# Altium footprint library Discrete_Capacitors_Electrolytic_SMD.PcbLib: 4 footprints
Each footprint in its own frame and in the unit in brackets; x right, y up, seen from the top. Pads: shape width x height; smd on the part's side, far side on the other; paste and mask are expansions set on the pad; w line width, h text height; cw(c..) or ccw(c..) is an arc to the next point about the centre after c.
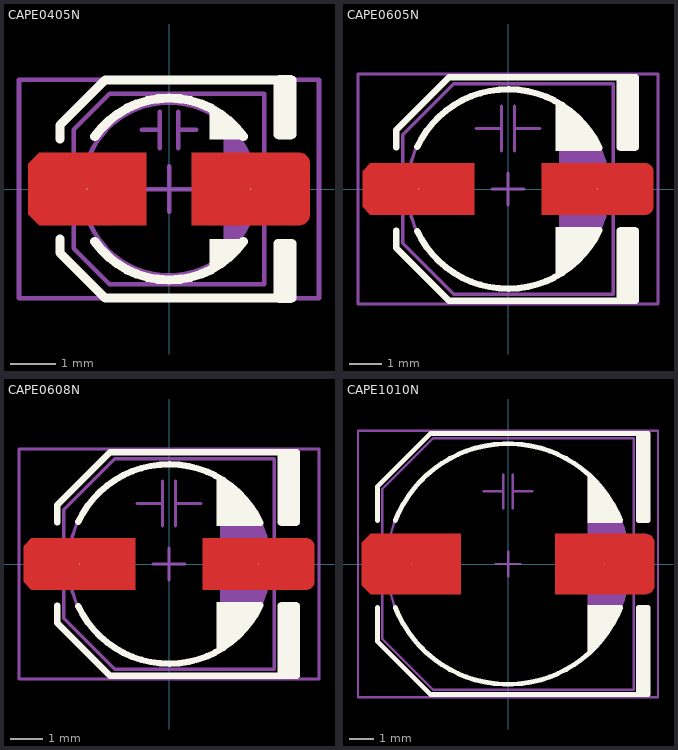
[diagram p0: the footprints below, top view; thin cyan lines are the x and y axes]

## CAPE0405N [mil]
height 216.54
pads (2):
  round 1 smd: 1(-70.87,0) 2(70.87,0)
Top Layer:
  region: 112.6,-31.5 19.68,-31.5 19.68,31.5 112.6,31.5 113.53,31.5 115.35,31.13 117.07,30.42 118.62,29.39 119.94,28.07 120.97,26.52 121.68,24.8 122.05,22.98 122.05,22.05 122.05,-22.05 122.05,-22.98 121.68,-24.8 120.97,-26.52 119.94,-28.07 118.62,-29.39 117.07,-30.42 115.35,-31.13 113.53,-31.5
  region: -112.6,31.5 -19.68,31.5 -19.68,-31.5 -112.6,-31.5 -122.05,-22.05 -122.05,22.05
Top Overlay:
  region: 94.49,98.43 106.3,98.43 106.3,43.31 94.49,43.31
  region: 35.43,70.87 35.43,43.31 66.93,43.31 64.52,48.12 57.93,56.63 49.83,63.71 40.52,69.11
  region: 94.49,-98.43 106.3,-98.43 106.3,-43.31 94.49,-43.31
  region: 35.43,-70.87 35.43,-43.31 66.93,-43.31 64.52,-48.12 57.93,-56.63 49.83,-63.71 40.52,-69.11
  lines w7.87: -94.49,-43.31 -94.49,-55.12 -55.12,-94.49 106.3,-94.49 106.3,-47.24 ; -94.49,43.31 -94.49,55.12 -55.12,94.49 106.3,94.49 106.3,47.24 ; -64.33,-45.41 ccw(c0,0) 64.33,-45.41 ; -64.33,45.41 cw(c0,0) 64.33,45.41 ; 94.49,-94.49 94.49,-47.24 ; 94.49,47.24 94.49,94.49
Top Package:
  circle w3.94: c0,0 r74.8
  region: 47.24,59.05 47.24,-59.06 50.6,-56.46 56.64,-50.52 61.93,-43.91 66.4,-36.71 69.98,-29.03 72.62,-20.98 74.3,-12.68 74.97,-4.23 74.8,0 74.97,4.23 74.3,12.68 72.63,20.98 69.98,29.03 66.4,36.71 61.93,43.91 56.64,50.52 50.6,56.46
  lines w3.94: -82.68,-15.75 -94.49,-15.75 -94.49,15.75 -82.68,15.75 ; -23.62,51.18 -7.87,51.18 ; -7.87,35.43 -7.87,66.93 ; 7.87,35.43 7.87,66.93 ; 7.87,51.18 23.62,51.18 ; 82.68,-15.75 94.49,-15.75 94.49,15.75 82.68,15.75 ; -82.68,-51.18 -82.68,51.18 -51.18,82.68 82.68,82.68 82.68,-82.68 -51.18,-82.68 -82.68,-51.18
Top Comment:
  text ".Comment" at -83.8,-85.59 h59.06
Top Designator:
  text ".Designator" at -101.6,-80.11 h59.06
Top Border:
  lines w3.94: -19.61,-0.03 19.76,-0.03 ; 0.07,-19.72 0.07,19.65 ; -129.92,-94.49 -129.92,94.49 129.92,94.49 129.92,-94.49 -129.92,-94.49
3D body "CAPE0405.step": height 212.64, standoff 0, extent -98.42,-84.64 98.43,84.65

## CAPE0605N [mil]
height 216.54
pads (2):
  round 1 smd: 1(-110.24,0) 2(110.24,0)
Top Layer:
  region: -169.69,31.5 -41.34,31.5 -41.34,-31.5 -169.69,-31.5 -179.13,-22.05 -179.13,22.05
  region: 169.69,-31.5 41.34,-31.5 41.34,31.5 169.69,31.5 170.62,31.5 172.44,31.13 174.16,30.42 175.71,29.39 177.02,28.07 178.06,26.52 178.77,24.8 179.13,22.98 179.13,22.05 179.13,-22.05 179.13,-22.98 178.77,-24.8 178.06,-26.52 177.02,-28.07 175.71,-29.39 174.16,-30.42 172.44,-31.13 170.62,-31.5
Top Overlay:
  region: 137.8,-137.8 157.48,-137.8 157.48,-47.24 137.8,-47.24
  region: 137.8,137.8 157.48,137.8 157.48,47.24 137.8,47.24
  region: 59.06,-47.24 114.17,-47.24 110.04,-56.7 98.71,-73.95 84.63,-89.04 68.2,-101.53 59.05,-106.3 59.06,-106.3
  region: 59.06,47.24 114.17,47.24 110.04,56.7 98.71,73.95 84.63,89.04 68.2,101.53 59.05,106.3 59.06,106.3
  lines w7.87: -137.8,-51.18 -137.8,-72.83 -72.83,-137.8 157.48,-137.8 157.48,-51.18 ; -137.8,51.18 -137.8,72.83 -72.83,137.8 157.48,137.8 157.48,51.18 ; -112.09,-52.06 ccw(c0,1) 112.79,-50.55 ; -112.09,52.06 cw(c0,-1) 112.79,50.55 ; 137.8,-137.8 137.8,-51.18 ; 137.8,51.18 137.8,137.8
Top Package:
  circle w3.94: c0,0 r124.02
  region: 62.99,106.3 62.99,-106.3 69.88,-102.27 82.47,-92.44 93.64,-81.02 103.19,-68.21 110.95,-54.25 116.77,-39.38 120.57,-23.87 122.26,-7.98 122.05,0 122.31,7.99 120.69,23.9 116.94,39.44 111.12,54.34 103.36,68.32 93.78,81.12 82.56,92.52 69.92,102.3
  lines w3.94: -39.37,74.8 -7.87,74.8 ; -7.87,47.24 -7.87,102.36 ; 7.87,47.24 7.87,102.36 ; 7.87,74.8 39.37,74.8 ; -129.92,-66.93 -129.92,66.93 -66.93,129.92 129.92,129.92 129.92,-129.92 -66.93,-129.92 -129.92,-66.93
Top Comment:
  text ".Comment" at -83.8,-93.46 h59.06
Top Designator:
  text ".Designator" at -101.6,-87.99 h59.06
Top Border:
  lines w3.94: -19.61,-0.03 19.76,-0.03 ; 0.07,-19.72 0.07,19.65 ; -185.04,-141.73 -185.04,141.73 185.04,141.73 185.04,-141.73 -185.04,-141.73
3D body "CAPE0605.step": height 212.64, standoff 0, extent -143.7,-129.92 143.71,129.92

## CAPE0608N [mil]
height 314.96
pads (2):
  round 1 smd: 1(-110.24,0) 2(110.24,0)
Top Layer:
  region: -169.69,31.5 -41.34,31.5 -41.34,-31.5 -169.69,-31.5 -179.13,-22.05 -179.13,22.05
  region: 169.69,-31.5 41.34,-31.5 41.34,31.5 169.69,31.5 170.62,31.5 172.44,31.13 174.16,30.42 175.71,29.39 177.02,28.07 178.06,26.52 178.77,24.8 179.13,22.98 179.13,22.05 179.13,-22.05 179.13,-22.98 178.77,-24.8 178.06,-26.52 177.02,-28.07 175.71,-29.39 174.16,-30.42 172.44,-31.13 170.62,-31.5
Top Overlay:
  region: 137.8,-137.8 157.48,-137.8 157.48,-47.24 137.8,-47.24
  region: 137.8,137.8 157.48,137.8 157.48,47.24 137.8,47.24
  region: 59.06,-47.24 114.17,-47.24 110.04,-56.7 98.71,-73.95 84.63,-89.04 68.2,-101.53 59.05,-106.3 59.06,-106.3
  region: 59.06,47.24 114.17,47.24 110.04,56.7 98.71,73.95 84.63,89.04 68.2,101.53 59.05,106.3 59.06,106.3
  lines w7.87: -137.8,-51.18 -137.8,-72.83 -72.83,-137.8 157.48,-137.8 157.48,-51.18 ; -137.8,51.18 -137.8,72.83 -72.83,137.8 157.48,137.8 157.48,51.18 ; -112.09,-52.06 ccw(c0,1) 112.79,-50.55 ; -112.09,52.06 cw(c0,-1) 112.79,50.55 ; 137.8,-137.8 137.8,-51.18 ; 137.8,51.18 137.8,137.8
Top Package:
  circle w3.94: c0,0 r124.02
  region: 62.99,106.3 62.99,-106.3 69.88,-102.27 82.47,-92.44 93.64,-81.02 103.19,-68.21 110.95,-54.25 116.77,-39.38 120.57,-23.87 122.26,-7.98 122.05,0 122.31,7.99 120.69,23.9 116.94,39.44 111.12,54.34 103.36,68.32 93.78,81.12 82.56,92.52 69.92,102.3
  lines w3.94: -39.37,74.8 -7.87,74.8 ; -7.87,47.24 -7.87,102.36 ; 7.87,47.24 7.87,102.36 ; 7.87,74.8 39.37,74.8 ; -129.92,-66.93 -129.92,66.93 -66.93,129.92 129.92,129.92 129.92,-129.92 -66.93,-129.92 -129.92,-66.93
Top Comment:
  text ".Comment" at -83.8,-93.46 h59.06
Top Designator:
  text ".Designator" at -101.6,-87.99 h59.06
Top Border:
  lines w3.94: -19.61,-0.03 19.76,-0.03 ; 0.07,-19.72 0.07,19.65 ; -185.04,-141.73 -185.04,141.73 185.04,141.73 185.04,-141.73 -185.04,-141.73
3D body "CAPE0608.step": height 319.29, standoff 0, extent -137.79,-129.92 137.8,129.92

## CAPE1010N [mil]
height 401.57
pads (2):
  round 1 smd: 1(-157.48,0) 2(157.48,0)
Top Layer:
  region: 223.43,49.21 224.88,49.21 227.73,48.65 230.42,47.53 232.84,45.92 234.89,43.86 236.51,41.44 237.62,38.76 238.19,35.9 238.19,34.45 238.19,-34.45 238.19,-35.9 237.62,-38.76 236.51,-41.44 234.89,-43.86 232.84,-45.92 230.42,-47.53 227.73,-48.65 224.88,-49.21 223.43,-49.21 76.77,-49.21 76.77,49.21
  region: -223.43,49.21 -76.77,49.21 -76.77,-49.21 -223.43,-49.21 -238.19,-34.45 -238.19,34.45
Top Overlay:
  region: 129.92,-66.93 185.04,-66.93 181.15,-78.49 170.15,-100.27 156.15,-120.26 139.45,-138.05 129.92,-145.67
  region: 129.92,66.93 185.04,66.93 181.15,78.49 170.15,100.27 156.15,120.26 139.45,138.05 129.92,145.67
  region: 212.6,-212.6 228.35,-212.6 228.35,-66.93 212.6,-66.93
  region: 212.6,212.6 228.35,212.6 228.35,66.93 212.6,66.93
  lines w7.87: -212.6,-70.87 -212.6,-125.98 -125.98,-212.6 228.35,-212.6 228.35,-70.87 ; -212.6,70.87 -212.6,125.98 -125.98,212.6 228.35,212.6 228.35,70.87 ; -183.5,-70.27 ccw(c0,1) 183.5,-70.27 ; -183.5,70.27 cw(c0,-1) 183.5,70.27 ; 212.6,-212.6 212.6,-70.87 ; 212.6,70.87 212.6,212.6
Top Package:
  circle w3.94: c0,0 r196.85
  region: 129.92,145.67 129.92,-145.67 137.93,-139.07 152.37,-124.16 165.04,-107.71 175.77,-89.95 184.44,-71.09 190.92,-51.37 195.15,-31.05 197.06,-10.38 196.85,0 197.11,10.38 195.26,31.07 191.07,51.42 184.6,71.15 175.93,90.03 165.17,107.79 152.46,124.22 137.97,139.1
  lines w3.94: -39.37,118.11 -7.87,118.11 ; -7.87,90.55 -7.87,145.67 ; 7.87,90.55 7.87,145.67 ; 7.87,118.11 39.37,118.11 ; -204.72,-122.05 -122.05,-204.72 204.72,-204.72 204.72,204.72 -122.05,204.72 -204.72,122.05 -204.72,-122.05
Top Comment:
  text ".Comment" at -83.8,-136.77 h59.06
Top Designator:
  text ".Designator" at -135.3,-135.87 h78.74
Top Border:
  lines w3.94: -19.61,-0.03 19.76,-0.03 ; 0.07,-19.72 0.07,19.65 ; -244.09,-216.54 -244.09,216.54 244.09,216.54 244.09,-216.54 -244.09,-216.54
3D body "CAPE1010.step": height 401.61, standoff 0, extent -216.53,-202.75 216.54,202.76